# Altium schematic symbol library Res1206.SchLib: 1 symbol
Pins are listed as number, name and electrical type; pins without a type are passive.

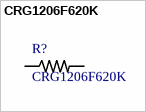
[diagram p0: symbol CRG1206F620K]

## CRG1206F620K
designator R?
Res Thick Film 1206 620K Ohm 1% 0.25W_1/4W_ Â±100ppm/C Pad SMD T/R; MF: TE Connectivity; Package: 1206 TE Connectivity; Price: 0.00 USD; MP: CRG1206F620K; Availability: Unavailable; SnapEDA_Link: https://www.snapeda.com/parts/CRG1206F620K/TE%20Connectivity%20/%20DEUTSCH/view-part/?ref=snap; Value: *
footprint RESC3115X65N
pins: 1, 2